# Altium footprint library amplifier.PcbLib: 49 footprints (part 1 of 4)
Each footprint in its own frame and in the unit in brackets; x right, y up, seen from the top. Pads: shape width x height; smd on the part's side, far side on the other; paste and mask are expansions set on the pad; w line width, h text height; cw(c..) or ccw(c..) is an arc to the next point about the centre after c.
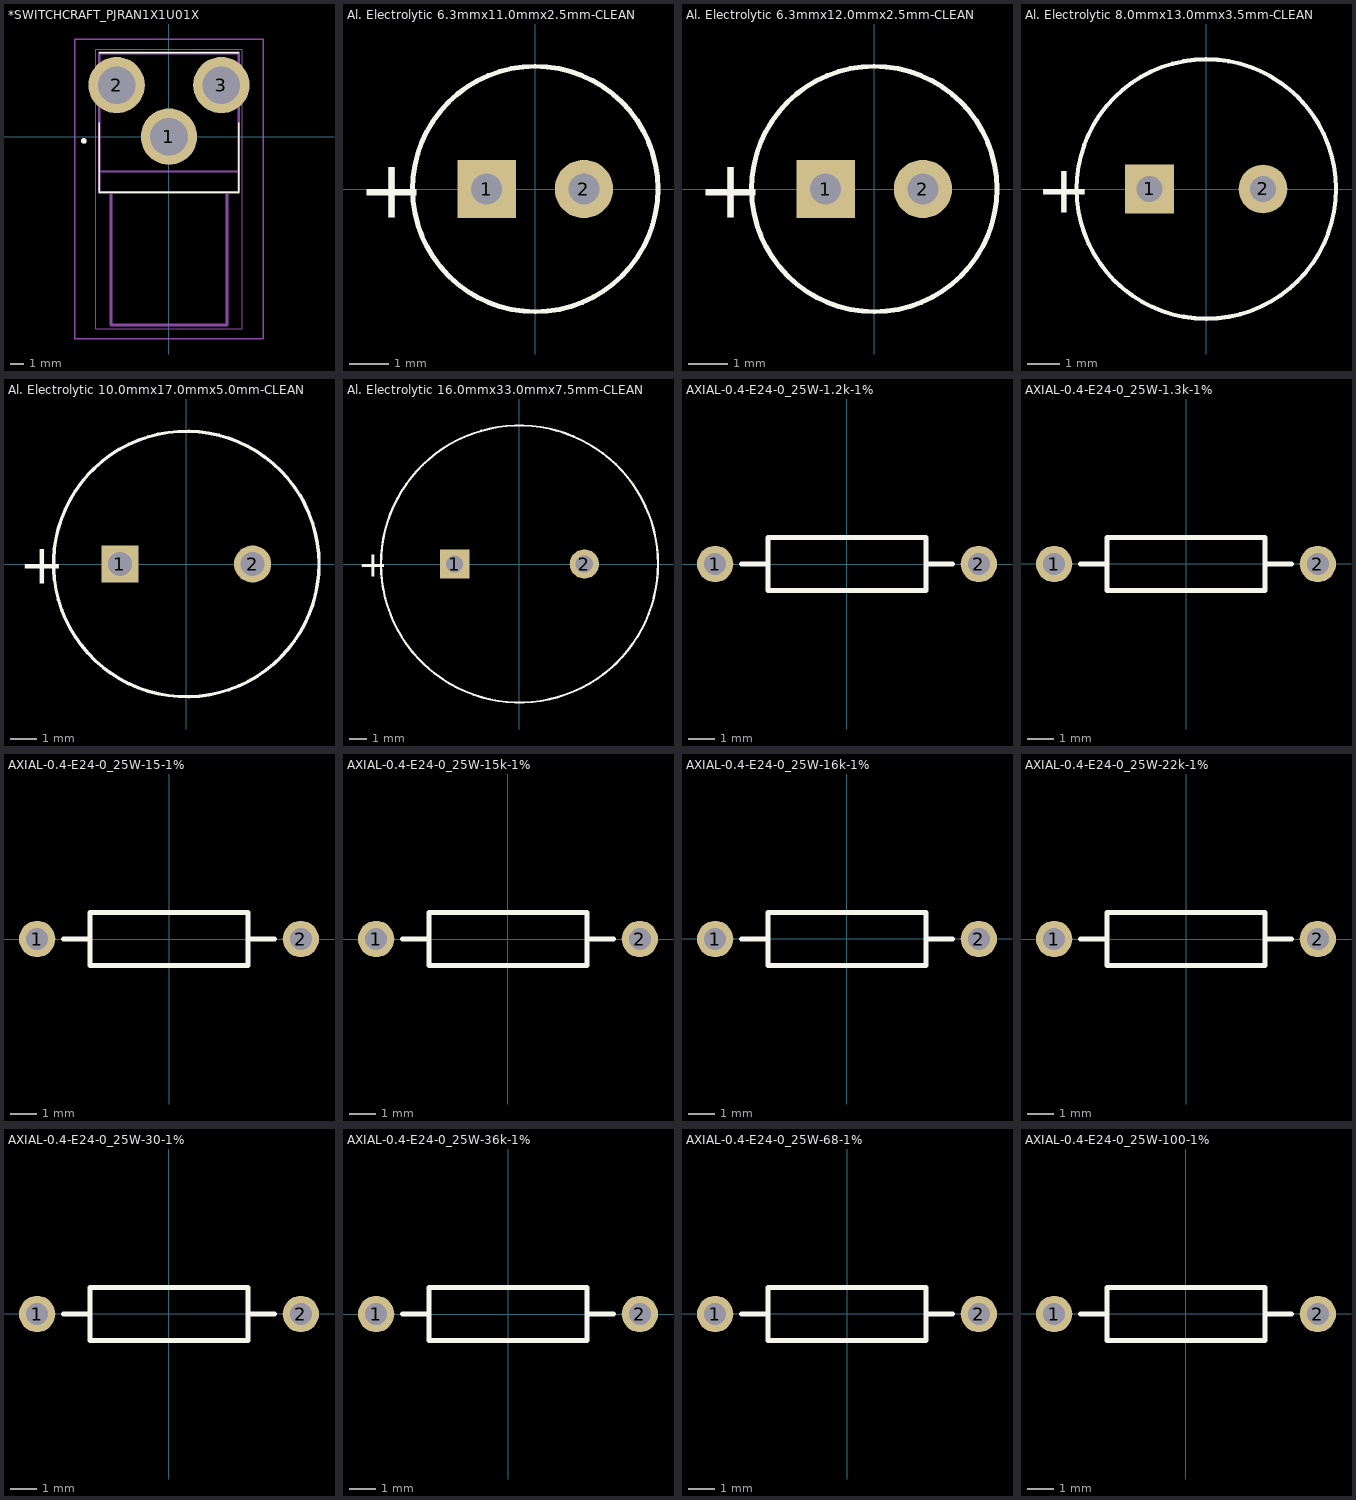
[diagram p0: the footprints below, top view; thin cyan lines are the x and y axes]

## *SWITCHCRAFT_PJRAN1X1U01X [mm]
pads (3):
  round 4.039 hole 2.693: 1(0,0) 2(-3.75,3.7) 3(3.75,3.7)
Top Overlay:
  circle w0.2: c-6.11,-0.3 r0.1
  lines w0.1: -5,1 -5,-4 5,-4 5,1 ; -5,6 5,6
Mechanical 1:
  lines w0: -4.25,2.45 -3.25,2.45 -3.25,4.95 -4.25,4.95 -4.25,2.45 ; -1.25,-0.65 1.25,-0.65 1.25,0.65 -1.25,0.65 -1.25,-0.65 ; 3.25,2.45 4.25,2.45 4.25,4.95 3.25,4.95 3.25,2.45
Mechanical 4:
  circle w0.2: c-6.11,-0.3 r0.1
  circle w0.2: c-6.11,-0.3 r0.1
  lines w0.127: -5,-4 -4.15,-4 ; -5,-4 -5,-2.5 ; -5,-4 -4.15,-4 ; -5,-4 -5,-2.5 ; -5,-2.5 5,-2.5 ; -5,-2.5 -5,6 ; -5,-2.5 5,-2.5 ; -5,-2.5 -5,6 ; -5,6 5,6 ; -5,6 5,6 ; -4.15,-13.5 4.15,-13.5 ; -4.15,-13.5 -4.15,-4 ; -4.15,-13.5 4.15,-13.5 ; -4.15,-13.5 -4.15,-4 ; -4.15,-4 4.15,-4 ; -4.15,-4 4.15,-4 ; 4.15,-13.5 4.15,-4 ; 4.15,-13.5 4.15,-4 ; 4.15,-4 5,-4 ; 4.15,-4 5,-4 ; 5,-4 5,-2.5 ; 5,-4 5,-2.5 ; 5,-2.5 5,6 ; 5,-2.5 5,6
  text "PCB EDGE" at -3.75,-2.62 h1.88
  text "PCB EDGE" at -3.75,-2.62 h1.88
Mechanical 13:
  lines w0.2: -4.15,-4 -4.15,-13.5 4.15,-13.5 4.15,-4 ; -5,-4 -5,6 5,6 5,-4 -5,-4
Mechanical 15:
  lines w0.1: -6.769,-14.5 -6.769,7 6.769,7 6.769,-14.5 -6.769,-14.5
Mechanical 16:
  lines w0.05: -5.25,-13.75 5.25,-13.75 5.25,6.25 -5.25,6.25 -5.25,-13.75
3D body "PJRAN1X1U01X.STEP": height 12.97, standoff -4.05, extent -5.004,-13.564 5.004,5.944
3D body "PJRAN1X1U01X.STEP": height 13, standoff -4.02, extent -5.054,-13.564 4.953,5.944

## Al. Electrolytic 6.3mmx11.0mmx2.5mm-CLEAN [mm]
pads (2):
  rect 1.5x1.5 hole 0.8: 1(-1.25,0)
  round 1.5 hole 0.8: 2(1.25,0)
Top Overlay:
  lines w0.127: 3.15,0 cw(c0,0) 3.15,0.008
  text "+" at -4.55,-0.737 h1.5
3D body "User Library-Cap-EL(6_3x11-2_5)-brown.step": height 10.9, standoff -3.3, extent -3.151,-3.149 3.151,3.149

## Al. Electrolytic 6.3mmx12.0mmx2.5mm-CLEAN [mm]
pads (2):
  rect 1.5x1.5 hole 0.8: 1(-1.25,0)
  round 1.5 hole 0.8: 2(1.25,0)
Top Overlay:
  lines w0.127: 3.15,0 cw(c0,0) 3.15,0.008
  text "+" at -4.55,-0.737 h1.5
3D body "User Library-Cap-EL(6_3x12-2_5)-black.step": height 11.9, standoff -3.3, extent -3.151,-3.149 3.151,3.149

## Al. Electrolytic 8.0mmx13.0mmx3.5mm-CLEAN [mm]
pads (2):
  rect 1.5x1.5 hole 0.8: 1(-1.75,0)
  round 1.5 hole 0.8: 2(1.75,0)
Top Overlay:
  lines w0.127: 4,0 cw(c0,0) 4,0.01
  text "+" at -5.25,-0.737 h1.5
3D body "User Library-Cap-EL(8x13-3_5)-blue.step": height 17.08, standoff -5.48, extent -11.128,-11.84 11.927,12.34

## Al. Electrolytic 10.0mmx17.0mmx5.0mm-CLEAN [mm]
pads (2):
  rect 1.4x1.4 hole 0.9: 1(-2.5,0)
  round 1.4 hole 0.9: 2(2.5,0)
Top Overlay:
  lines w0.127: 5,0 cw(c0,0) 5,0.012
  text "+" at -6.3,-0.737 h1.5
3D body "User Library-Cap-EL(10x17-5)-orange.step": height 16.96, standoff -3.05, extent -5.005,-5 5.005,5

## Al. Electrolytic 16.0mmx33.0mmx7.5mm-CLEAN [mm]
pads (2):
  rect 1.7x1.7 hole 1: 1(-3.75,0)
  round 1.7 hole 1: 2(3.75,0)
Top Overlay:
  lines w0.127: 8,0 cw(c0,0) 8,0.019
  text "+" at -9.325,-0.737 h1.5
3D body "User Library-Cap-EL(16x33-7_5)-blue.step": height 33.01, standoff -3, extent -8.025,-7.925 7.985,8.075

## AXIAL-0.4-E24-0_25W-1.2k-1% [mm]
pads (2):
  round 1.4 hole 0.85: 1(-5.08,0) 2(5.08,0)
Top Overlay:
  lines w0.2: -4.064,0 -3.048,0 ; 3.048,0 4.064,0 ; -3.048,-1.016 -3.048,1.016 3.048,1.016 3.048,-1.016 -3.048,-1.016
3D body "User Library-Res40-Axial 0_25W-1K2-1%.step": height 2.41, standoff -2, extent -5.38,-1.2 5.38,1.2
3D body: height 2.41, standoff -2, extent 0.025,0.076 0.025,0.076
3D body "User Library-Res40-Axial 0_25W-1K2-1%.step": height 2.41, standoff -2, extent -5.38,-1.2 5.38,1.2

## AXIAL-0.4-E24-0_25W-1.3k-1% [mm]
pads (2):
  round 1.4 hole 0.85: 1(-5.08,0) 2(5.08,0)
Top Overlay:
  lines w0.2: -4.064,0 -3.048,0 ; 3.048,0 4.064,0 ; -3.048,-1.016 -3.048,1.016 3.048,1.016 3.048,-1.016 -3.048,-1.016
3D body "User Library-Res40-Axial 0_25W-1K2-1%.step": height 2.41, standoff -2, extent -5.38,-1.2 5.38,1.2
3D body: height 2.41, standoff -2, extent 0.025,0.076 0.025,0.076
3D body "User Library-Res40-Axial 0_25W-1K3-1%.step": height 2.41, standoff -2, extent -5.38,-1.2 5.38,1.2

## AXIAL-0.4-E24-0_25W-15-1% [mm]
pads (2):
  round 1.4 hole 0.85: 1(-5.08,0) 2(5.08,0)
Top Overlay:
  lines w0.2: -4.064,0 -3.048,0 ; 3.048,0 4.064,0 ; -3.048,-1.016 -3.048,1.016 3.048,1.016 3.048,-1.016 -3.048,-1.016
3D body "User Library-Res40-Axial 0_25W-15R-1%.step": height 2.41, standoff -2, extent -5.38,-1.2 5.38,1.2

## AXIAL-0.4-E24-0_25W-15k-1% [mm]
pads (2):
  round 1.4 hole 0.85: 1(-5.08,0) 2(5.08,0)
Top Overlay:
  lines w0.2: -4.064,0 -3.048,0 ; 3.048,0 4.064,0 ; -3.048,-1.016 -3.048,1.016 3.048,1.016 3.048,-1.016 -3.048,-1.016
3D body "User Library-Res40-Axial 0_25W-15K-1%.step": height 2.41, standoff -2, extent -5.38,-1.2 5.38,1.2

## AXIAL-0.4-E24-0_25W-16k-1% [mm]
pads (2):
  round 1.4 hole 0.85: 1(-5.08,0) 2(5.08,0)
Top Overlay:
  lines w0.2: -4.064,0 -3.048,0 ; 3.048,0 4.064,0 ; -3.048,-1.016 -3.048,1.016 3.048,1.016 3.048,-1.016 -3.048,-1.016
3D body "User Library-Res40-Axial 0_25W-16K-1%.step": height 2.41, standoff -2, extent -5.38,-1.2 5.38,1.2

## AXIAL-0.4-E24-0_25W-22k-1% [mm]
pads (2):
  round 1.4 hole 0.85: 1(-5.08,0) 2(5.08,0)
Top Overlay:
  lines w0.2: -4.064,0 -3.048,0 ; 3.048,0 4.064,0 ; -3.048,-1.016 3.048,-1.016 3.048,1.016 -3.048,1.016 -3.048,-1.016
3D body "User Library-Res40-Axial 0_25W-22K-1%.step": height 2.41, standoff -2, extent -5.38,-1.2 5.38,1.2

## AXIAL-0.4-E24-0_25W-30-1% [mm]
pads (2):
  round 1.4 hole 0.85: 1(-5.08,0) 2(5.08,0)
Top Overlay:
  lines w0.2: -4.064,0 -3.048,0 ; 3.048,0 4.064,0 ; -3.048,-1.016 -3.048,1.016 3.048,1.016 3.048,-1.016 -3.048,-1.016
3D body "User Library-Res40-Axial 0_25W-30R-1%.step": height 2.41, standoff -2, extent -5.38,-1.2 5.38,1.2

## AXIAL-0.4-E24-0_25W-36k-1% [mm]
pads (2):
  round 1.4 hole 0.85: 1(-5.08,0) 2(5.08,0)
Top Overlay:
  lines w0.2: -4.064,0 -3.048,0 ; 3.048,0 4.064,0 ; -3.048,-1.016 -3.048,1.016 3.048,1.016 3.048,-1.016 -3.048,-1.016
3D body "User Library-Res40-Axial 0_25W-36K-1%.step": height 2.41, standoff -2, extent -5.38,-1.2 5.38,1.2

## AXIAL-0.4-E24-0_25W-68-1% [mm]
pads (2):
  round 1.4 hole 0.85: 1(-5.08,0) 2(5.08,0)
Top Overlay:
  lines w0.2: -4.064,0 -3.048,0 ; 3.048,0 4.064,0 ; -3.048,-1.016 3.048,-1.016 3.048,1.016 -3.048,1.016 -3.048,-1.016
3D body "User Library-Res40-Axial 0_25W-68R-1%.step": height 2.41, standoff -2, extent -5.38,-1.2 5.38,1.2

## AXIAL-0.4-E24-0_25W-100-1% [mm]
pads (2):
  round 1.4 hole 0.85: 1(-5.08,0) 2(5.08,0)
Top Overlay:
  lines w0.2: -4.064,0 -3.048,0 ; 3.048,0 4.064,0 ; -3.048,-1.016 3.048,-1.016 3.048,1.016 -3.048,1.016 -3.048,-1.016
3D body "User Library-Res40-Axial 0_25W-100R-1%.step": height 2.41, standoff -2, extent -5.38,-1.2 5.38,1.2